# EAGLE library part STM32F746VGT6 (library Rebel)
STM32F746VGT6
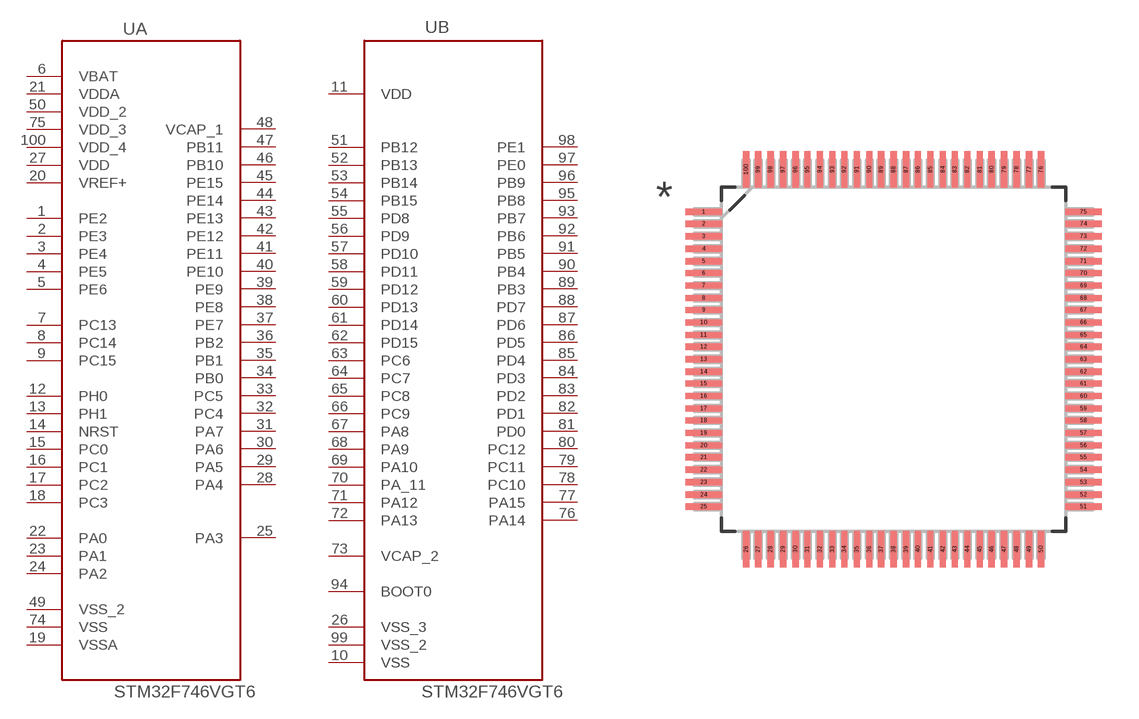
[diagram p13: symbol with the pads of QFP50P1600X1600X160-100N; footprint QFP50P1600X1600X160-100N]

Designator prefix -; gates A=STM32F746VGT6 B=STM32F746VGT_B

## STM32F746VGT6  [QFP50P1600X1600X160-100N]
1  A:PE2
2  A:PE3
3  A:PE4
4  A:PE5
5  A:PE6
6  A:VBAT
7  A:PC13
8  A:PC14
9  A:PC15
10  B:VSS
11  B:VDD
12  A:PH0
13  A:PH1
14  A:NRST
15  A:PC0
16  A:PC1
17  A:PC2
18  A:PC3
19  A:VSSA
20  A:VREF+
21  A:VDDA
22  A:PA0
23  A:PA1
24  A:PA2
25  A:PA3
26  B:VSS_3
27  A:VDD
28  A:PA4
29  A:PA5
30  A:PA6
31  A:PA7
32  A:PC4
33  A:PC5
34  A:PB0
35  A:PB1
36  A:PB2
37  A:PE7
38  A:PE8
39  A:PE9
40  A:PE10
41  A:PE11
42  A:PE12
43  A:PE13
44  A:PE14
45  A:PE15
46  A:PB10
47  A:PB11
48  A:VCAP_1
49  A:VSS_2
50  A:VDD_2
51  B:PB12
52  B:PB13
53  B:PB14
54  B:PB15
55  B:PD8
56  B:PD9
57  B:PD10
58  B:PD11
59  B:PD12
60  B:PD13
61  B:PD14
62  B:PD15
63  B:PC6
64  B:PC7
65  B:PC8
66  B:PC9
67  B:PA8
68  B:PA9
69  B:PA10
70  B:PA_11
71  B:PA12
72  B:PA13
73  B:VCAP_2
74  A:VSS
75  A:VDD_3
76  B:PA14
77  B:PA15
78  B:PC10
79  B:PC11
80  B:PC12
81  B:PD0
82  B:PD1
83  B:PD2
84  B:PD3
85  B:PD4
86  B:PD5
87  B:PD6
88  B:PD7
89  B:PB3
90  B:PB4
91  B:PB5
92  B:PB6
93  B:PB7
94  B:BOOT0
95  B:PB8
96  B:PB9
97  B:PE0
98  B:PE1
99  B:VSS_2
100  A:VDD_4

## Footprint QFP50P1600X1600X160-100N (pad centres in mm)
smd 1.473 x 0.254: 1 -7.722,5.994; 2 -7.722,5.512; 3 -7.722,5.004; 4 -7.722,4.496; 5 -7.722,3.988; 6 -7.722,3.505; 7 -7.722,2.997; 8 -7.722,2.489; 9 -7.722,2.007; 10 -7.722,1.499; 11 -7.722,0.991; 12 -7.722,0.508; 13 -7.722,0; 14 -7.722,-0.508; 15 -7.722,-0.991; 16 -7.722,-1.499; 17 -7.722,-2.007; 18 -7.722,-2.489; 19 -7.722,-2.997; 20 -7.722,-3.505; 21 -7.722,-3.988; 22 -7.722,-4.496; 23 -7.722,-5.004; 24 -7.722,-5.512; 25 -7.722,-5.994; 51 7.722,-5.994; 52 7.722,-5.512; 53 7.722,-5.004; 54 7.722,-4.496; 55 7.722,-3.988; 56 7.722,-3.505; 57 7.722,-2.997; 58 7.722,-2.489; 59 7.722,-2.007; 60 7.722,-1.499; 61 7.722,-0.991; 62 7.722,-0.508; 63 7.722,0; 64 7.722,0.508; 65 7.722,0.991; 66 7.722,1.499; 67 7.722,2.007; 68 7.722,2.489; 69 7.722,2.997; 70 7.722,3.505; 71 7.722,3.988; 72 7.722,4.496; 73 7.722,5.004; 74 7.722,5.512; 75 7.722,5.994
smd 0.254 x 1.473: 26 -5.994,-7.722; 27 -5.512,-7.722; 28 -5.004,-7.722; 29 -4.496,-7.722; 30 -3.988,-7.722; 31 -3.505,-7.722; 32 -2.997,-7.722; 33 -2.489,-7.722; 34 -2.007,-7.722; 35 -1.499,-7.722; 36 -0.991,-7.722; 37 -0.508,-7.722; 38 0,-7.722; 39 0.508,-7.722; 40 0.991,-7.722; 41 1.499,-7.722; 42 2.007,-7.722; 43 2.489,-7.722; 44 2.997,-7.722; 45 3.505,-7.722; 46 3.988,-7.722; 47 4.496,-7.722; 48 5.004,-7.722; 49 5.512,-7.722; 50 5.994,-7.722; 76 5.994,7.722; 77 5.512,7.722; 78 5.004,7.722; 79 4.496,7.722; 80 3.988,7.722; 81 3.505,7.722; 82 2.997,7.722; 83 2.489,7.722; 84 2.007,7.722; 85 1.499,7.722; 86 0.991,7.722; 87 0.508,7.722; 88 0,7.722; 89 -0.508,7.722; 90 -0.991,7.722; 91 -1.499,7.722; 92 -2.007,7.722; 93 -2.489,7.722; 94 -2.997,7.722; 95 -3.505,7.722; 96 -3.988,7.722; 97 -4.496,7.722; 98 -5.004,7.722; 99 -5.512,7.722; 100 -5.994,7.722